# Altium schematic symbol library JEAC605UM-FTTSC-1 (1).~1.~1.SCHLIB: 42 symbols
Pins are listed as number, name and electrical type; pins without a type are passive.

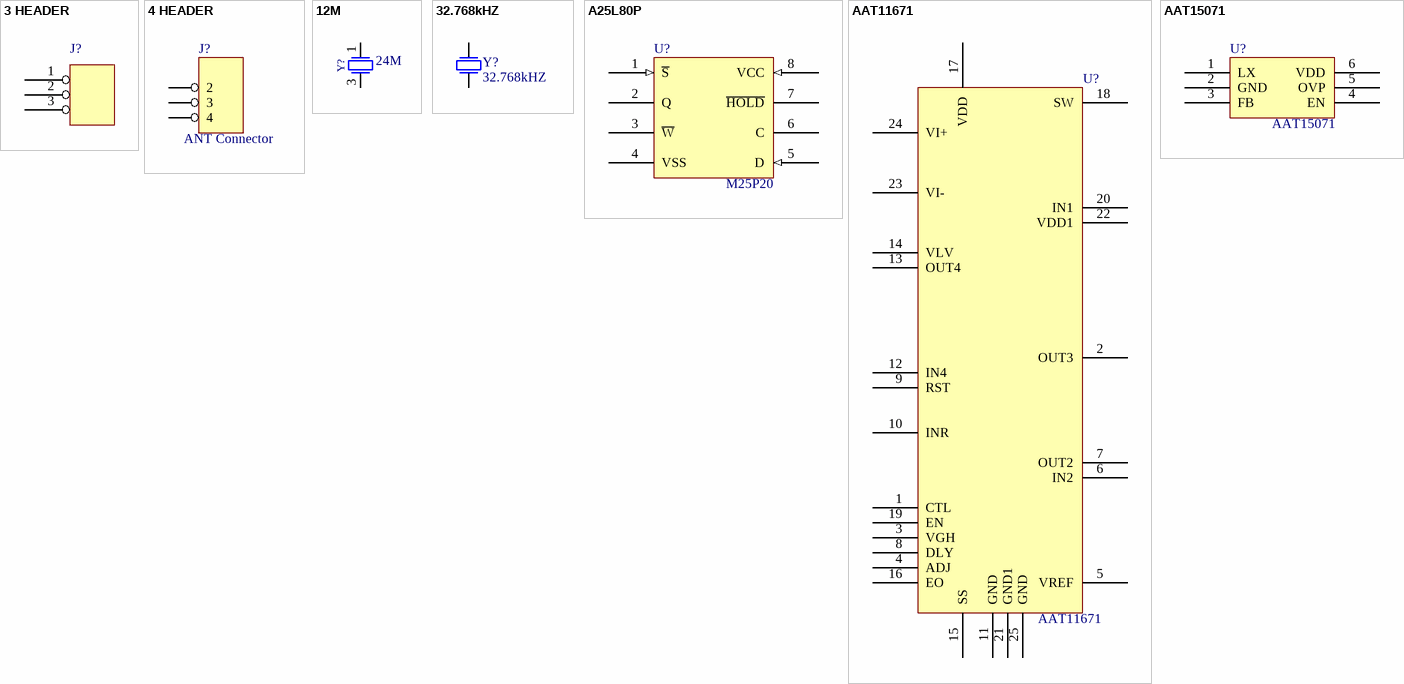
[diagram p0: symbols 3 HEADER to AAT15071]

## 3 HEADER
designator J?
footprint J-CON-3-2_1 (MONO_TEST)
pins: 1, 2, 3

## 4 HEADER
designator J?, comment ANT Connector
4 Pin Header
footprint J-AT-3-50-H (ATNC)
pins: 2, 3, 4

## 12M
designator Y?, comment 24M
Crystal Oscillator
footprint Y-4-2_2-TXC-3225 (XTAL-3225)
pins: 1 P1, 2 GND hidden to GND, 3 P2, 4 GND hidden to GND

## 32.768kHZ
designator Y?
Crystal Oscillator
footprint Y-2-XTALB (XTAL-B)
pins: 1 P1, 2 P2

## A25L80P
designator U?, comment M25P20
footprint U-SO-8-1_27 (SO-8)
pins: 1 ~{S} (in), 2 Q, 3 ~{W}, 4 VSS (power), 5 D (in), 6 C, 7 ~{HOLD}, 8 VCC (in)

## AAT11671
designator U?
footprint U-QFN-24-0_5
pins: 1 CTL, 2 OUT3, 3 VGH, 4 ADJ, 5 VREF, 6 IN2, 7 OUT2, 8 DLY, 9 RST, 10 INR, 11 GND, 12 IN4, 13 OUT4, 14 VLV, 15 SS, 16 EO, 17 VDD, 18 SW, 19 EN, 20 IN1, 21 GND1, 22 VDD1, 23 VI-, 24 VI+, 25 GND

## AAT15071
designator U?
footprint SOT23-6-0_95 (Footprint not found)
pins: 1 LX, 2 GND, 3 FB, 4 EN, 5 OVP, 6 VDD

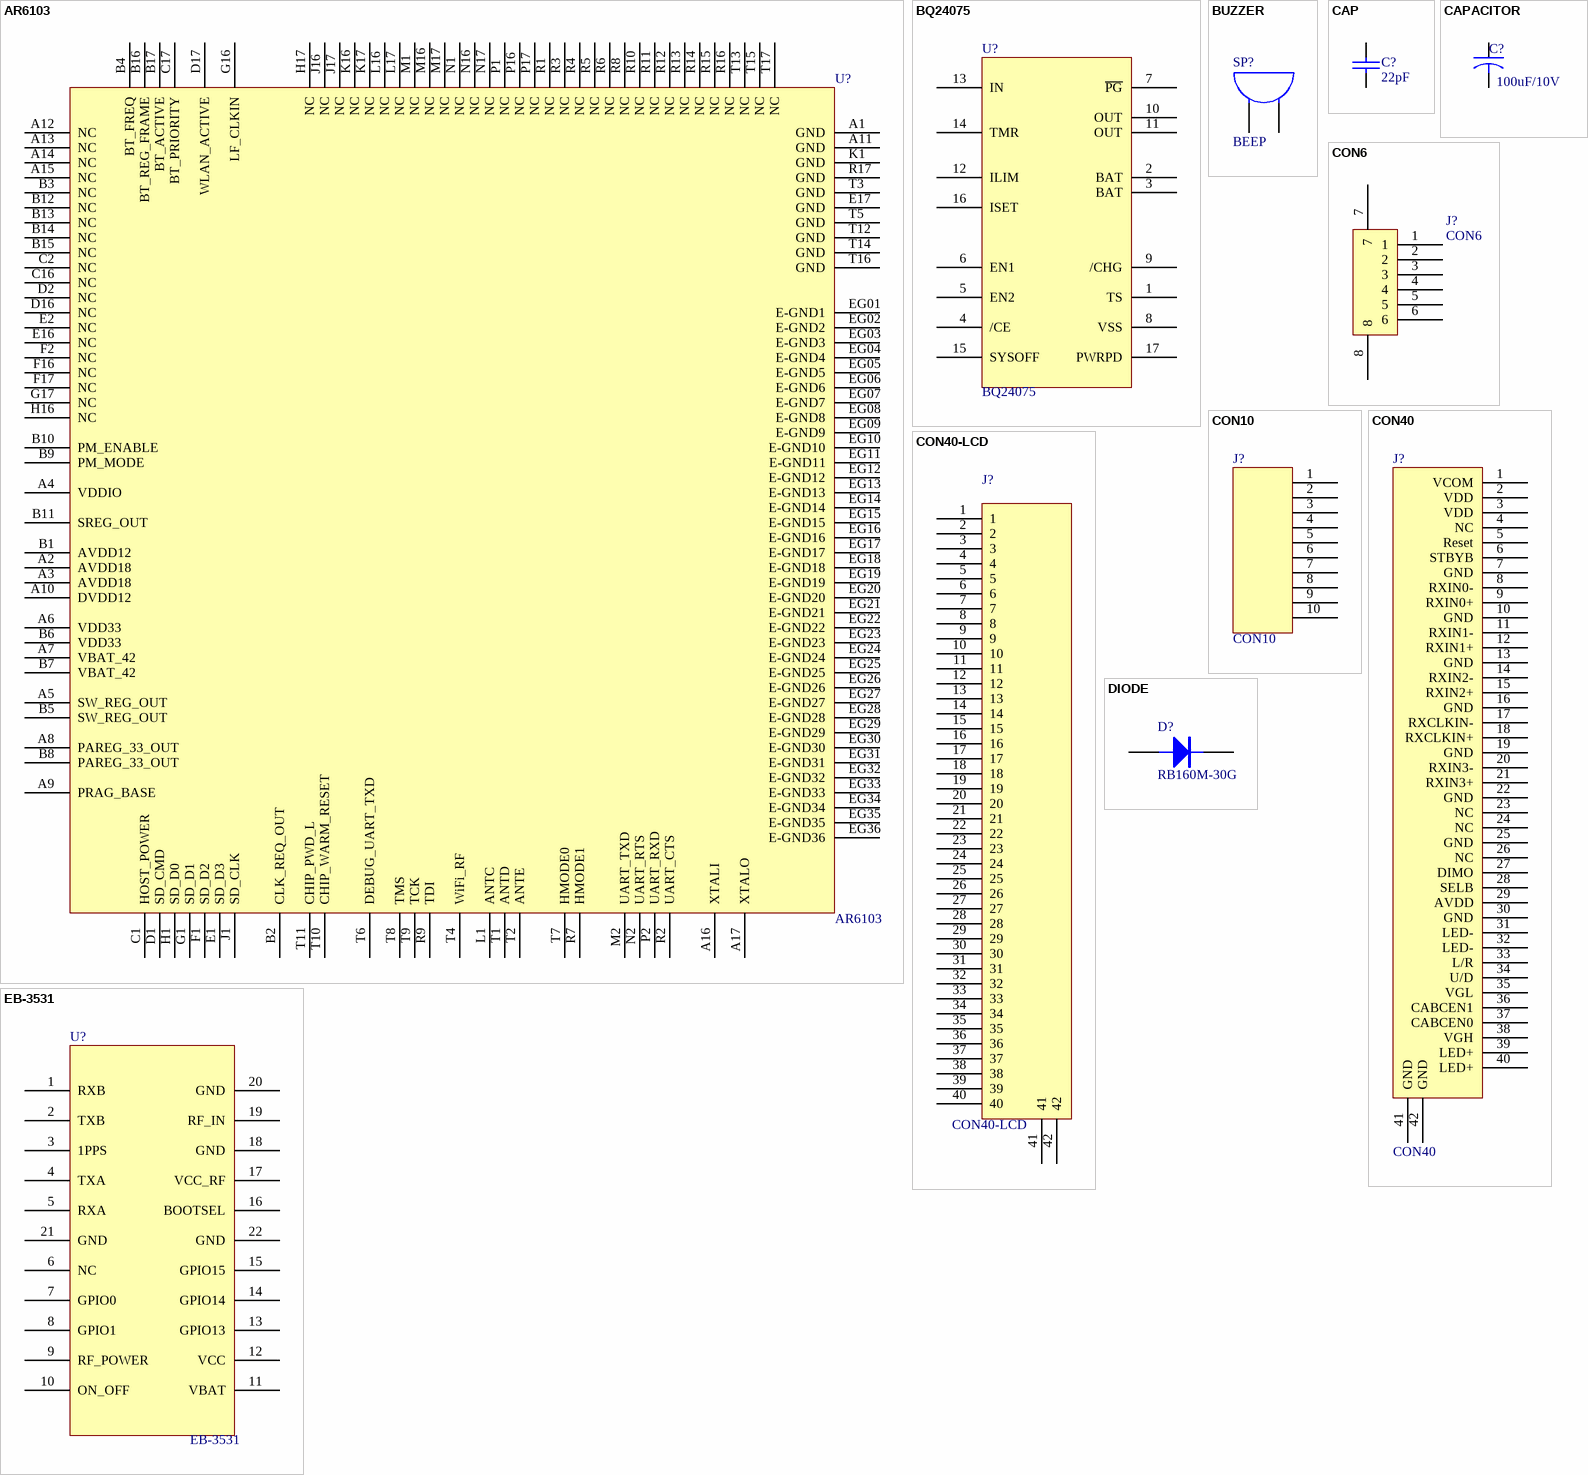
[diagram p1: symbols AR6103 to EB-3531]

## AR6103
designator U?
footprint U-WF-BGA-0_5-147
pins: A1 GND, A2 AVDD18, A3 AVDD18, A4 VDDIO, A5 SW_REG_OUT, A6 VDD33, A7 VBAT_42, A8 PAREG_33_OUT, A9 PRAG_BASE, A10 DVDD12, A11 GND, A12 NC, A13 NC, A14 NC, A15 NC, A16 XTALI, A17 XTALO, B1 AVDD12, B2 CLK_REQ_OUT, B3 NC, B4 BT_FREQ, B5 SW_REG_OUT, B6 VDD33, B7 VBAT_42, B8 PAREG_33_OUT, B9 PM_MODE, B10 PM_ENABLE, B11 SREG_OUT, B12 NC, B13 NC, B14 NC, B15 NC, B16 BT_REG_FRAME, B17 BT_ACTIVE, C1 HOST_POWER, C2 NC, C16 NC, C17 BT_PRIORITY, D1 SD_CMD, D2 NC, D16 NC, D17 WLAN_ACTIVE, E1 SD_D3, E2 NC, E16 NC, E17 GND, EG01 E-GND1, EG02 E-GND2, EG03 E-GND3, EG04 E-GND4, EG05 E-GND5, EG06 E-GND6, EG07 E-GND7, EG08 E-GND8, EG09 E-GND9, EG10 E-GND10, EG11 E-GND11, EG12 E-GND12, EG13 E-GND13, EG14 E-GND14, EG15 E-GND15, EG16 E-GND16, EG17 E-GND17, EG18 E-GND18, EG19 E-GND19, EG20 E-GND20, EG21 E-GND21, EG22 E-GND22, EG23 E-GND23, EG24 E-GND24, EG25 E-GND25, EG26 E-GND26, EG27 E-GND27, EG28 E-GND28, EG29 E-GND29, EG30 E-GND30, EG31 E-GND31, EG32 E-GND32, EG33 E-GND33, EG34 E-GND34, EG35 E-GND35, EG36 E-GND36, F1 SD_D2, F2 NC, F16 NC, F17 NC, G1 SD_D1, G16 LF_CLKIN, G17 NC, H1 SD_D0, H16 NC, H17 NC, J1 SD_CLK, J16 NC, J17 NC, K1 GND, K16 NC, K17 NC, L1 ANTC, L16 NC, L17 NC, M1 NC, M2 UART_TXD, M16 NC, M17 NC, N1 NC, N2 UART_RTS, N16 NC, N17 NC, P1 NC, P2 UART_RXD, P16 NC, P17 NC, R1 NC, R2 UART_CTS, R3 NC, R4 NC, R5 NC, R6 NC, R7 HMODE1, R8 NC, R9 TDI, R10 NC, R11 NC, R12 NC, R13 NC, R14 NC, R15 NC, R16 NC, R17 GND, T1 ANTD, T2 ANTE, T3 GND, T4 WiFi_RF, T5 GND, T6 DEBUG_UART_TXD, T7 HMODE0, T8 TMS, T9 TCK, T10 CHIP_WARM_RESET, T11 CHIP_PWD_L, T12 GND, T13 NC, T14 GND, T15 NC, T16 GND, T17 NC

## BQ24075
designator U?
footprint U-QFN-16-0_5
pins: 1 TS, 2 BAT, 3 BAT, 4 /CE, 5 EN2, 6 EN1, 7 ~{PG}, 8 VSS, 9 /CHG, 10 OUT, 11 OUT, 12 ILIM, 13 IN, 14 TMR, 15 SYSOFF, 16 ISET, 17 PWRPD

## BUZZER
designator SP?, comment BEEP
Buzzer
footprint J-BUZ-4-6_4 (KTT)
pins: 1 A, 2 B

## CAP
designator C?, comment 22pF
Capacitor
footprint 0603
footprint 0402A
footprint C0402 (0402B)
pins: 1, 2

## CAPACITOR
designator C?, comment 100uF/10V
Capacitor
footprint EIA3528
footprint EIA47UF
footprint CASE-B (EIA3518)
pins: 1, 2

## CON6
designator J?
footprint J-CON-6-0_5 (CN6T)
pins: 1, 2, 3, 4, 5, 6, 7, 8

## CON10
designator J?
footprint J-CON-10-1_0 (CN10T)
pins: 1, 2, 3, 4, 5, 6, 7, 8, 9, 10

## CON40
designator J?
footprint j-con-40-0_5f
pins: 1 VCOM, 2 VDD, 3 VDD, 4 NC, 5 Reset, 6 STBYB, 7 GND, 8 RXIN0-, 9 RXIN0+, 10 GND, 11 RXIN1-, 12 RXIN1+, 13 GND, 14 RXIN2-, 15 RXIN2+, 16 GND, 17 RXCLKIN-, 18 RXCLKIN+, 19 GND, 20 RXIN3-, 21 RXIN3+, 22 GND, 23 NC, 24 NC, 25 GND, 26 NC, 27 DIMO, 28 SELB, 29 AVDD, 30 GND, 31 LED-, 32 LED-, 33 L/R, 34 U/D, 35 VGL, 36 CABCEN1, 37 CABCEN0, 38 VGH, 39 LED+, 40 LED+, 41 GND, 42 GND

## CON40-LCD
designator J?
footprint j-con-40-0_5
pins: 1, 2, 3, 4, 5, 6, 7, 8, 9, 10, 11, 12, 13, 14, 15, 16, 17, 18, 19, 20, 21, 22, 23, 24, 25, 26, 27, 28, 29, 30, 31, 32, 33, 34, 35, 36, 37, 38, 39, 40, 41, 42

## DIODE
designator D?, comment RB160M-30G
footprint SOD-123 (RB160M-30G)
pins: 1, 2

## EB-3531
designator U?
footprint U-GPS-22-3531X (Model Description)
pins: 1 RXB, 2 TXB, 3 1PPS, 4 TXA, 5 RXA, 6 NC, 7 GPIO0, 8 GPIO1, 9 RF_POWER, 10 ON_OFF, 11 VBAT, 12 VCC, 13 GPIO13, 14 GPIO14, 15 GPIO15, 16 BOOTSEL, 17 VCC_RF, 18 GND, 19 RF_IN, 20 GND, 21 GND, 22 GND

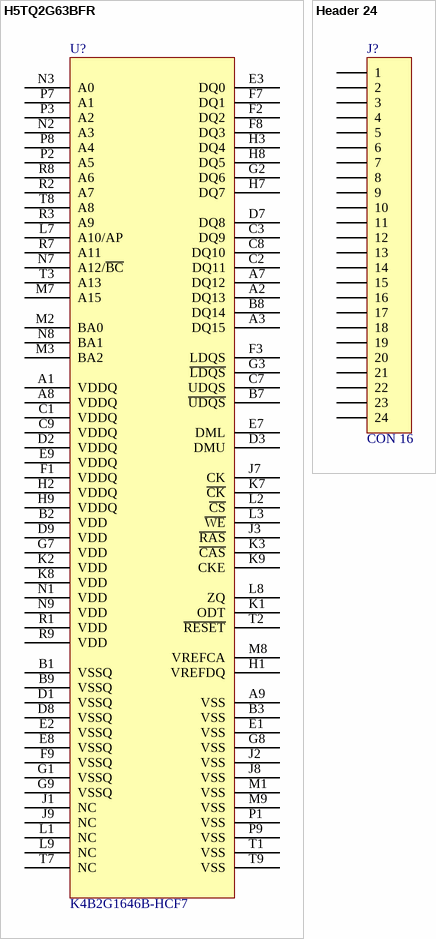
[diagram p2: symbols H5TQ2G63BFR to Header 24]

## H5TQ2G63BFR
designator U?, comment K4B2G1646B-HCF7
footprint U-BGA-96-0_8 (Model Description)
pins: A1 VDDQ, A2 DQ13, A3 DQ15, A7 DQ12, A8 VDDQ, A9 VSS, B1 VSSQ, B2 VDD, B3 VSS, B7 ~{UDQS}, B8 DQ14, B9 VSSQ, C1 VDDQ, C2 DQ11, C3 DQ9, C7 UDQS, C8 DQ10, C9 VDDQ, D1 VSSQ, D2 VDDQ, D3 DMU, D7 DQ8, D8 VSSQ, D9 VDD, E1 VSS, E2 VSSQ, E3 DQ0, E7 DML, E8 VSSQ, E9 VDDQ, F1 VDDQ, F2 DQ2, F3 LDQS, F7 DQ1, F8 DQ3, F9 VSSQ, G1 VSSQ, G2 DQ6, G3 ~{LDQS}, G7 VDD, G8 VSS, G9 VSSQ, H1 VREFDQ, H2 VDDQ, H3 DQ4, H7 DQ7, H8 DQ5, H9 VDDQ, J1 NC, J2 VSS, J3 ~{RAS}, J7 CK, J8 VSS, J9 NC, K1 ODT, K2 VDD, K3 ~{CAS}, K7 ~{CK}, K8 VDD, K9 CKE, L1 NC, L2 ~{CS}, L3 ~{WE}, L7 A10/AP, L8 ZQ, L9 NC, M1 VSS, M2 BA0, M3 BA2, M7 A15, M8 VREFCA, M9 VSS, N1 VDD, N2 A3, N3 A0, N7 A12/~{BC}, N8 BA1, N9 VDD, P1 VSS, P2 A5, P3 A2, P7 A1, P8 A4, P9 VSS, R1 VDD, R2 A7, R3 A9, R7 A11, R8 A6, R9 VDD, T1 VSS, T2 ~{RESET}, T3 A13, T7 NC, T8 A8, T9 VSS

## Header 24
designator J?, comment CON 16
Header, 24-Pin; Manufacturer: Generic Components; Class: Connector
footprint j-con-16-0_5 (Model Description)
pins: 1, 2, 3, 4, 5, 6, 7, 8, 9, 10, 11, 12, 13, 14, 15, 16, 17, 18, 19, 20, 21, 22, 23, 24

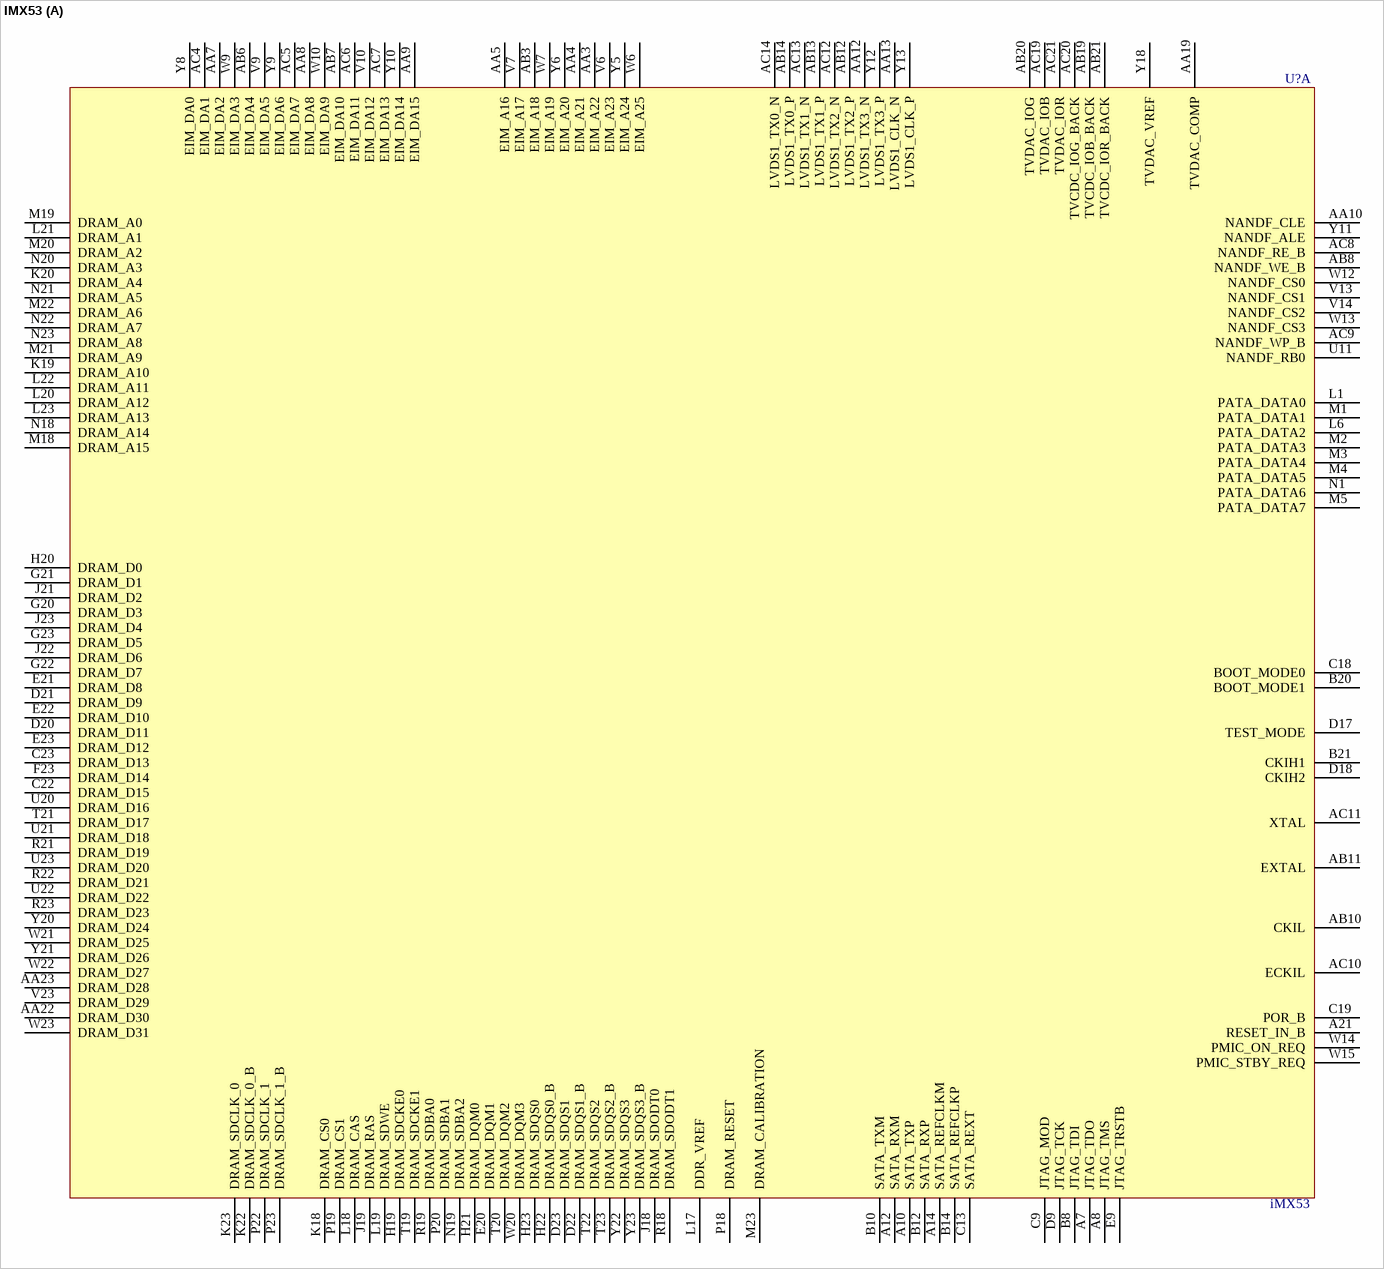
[diagram p3: symbol IMX53]

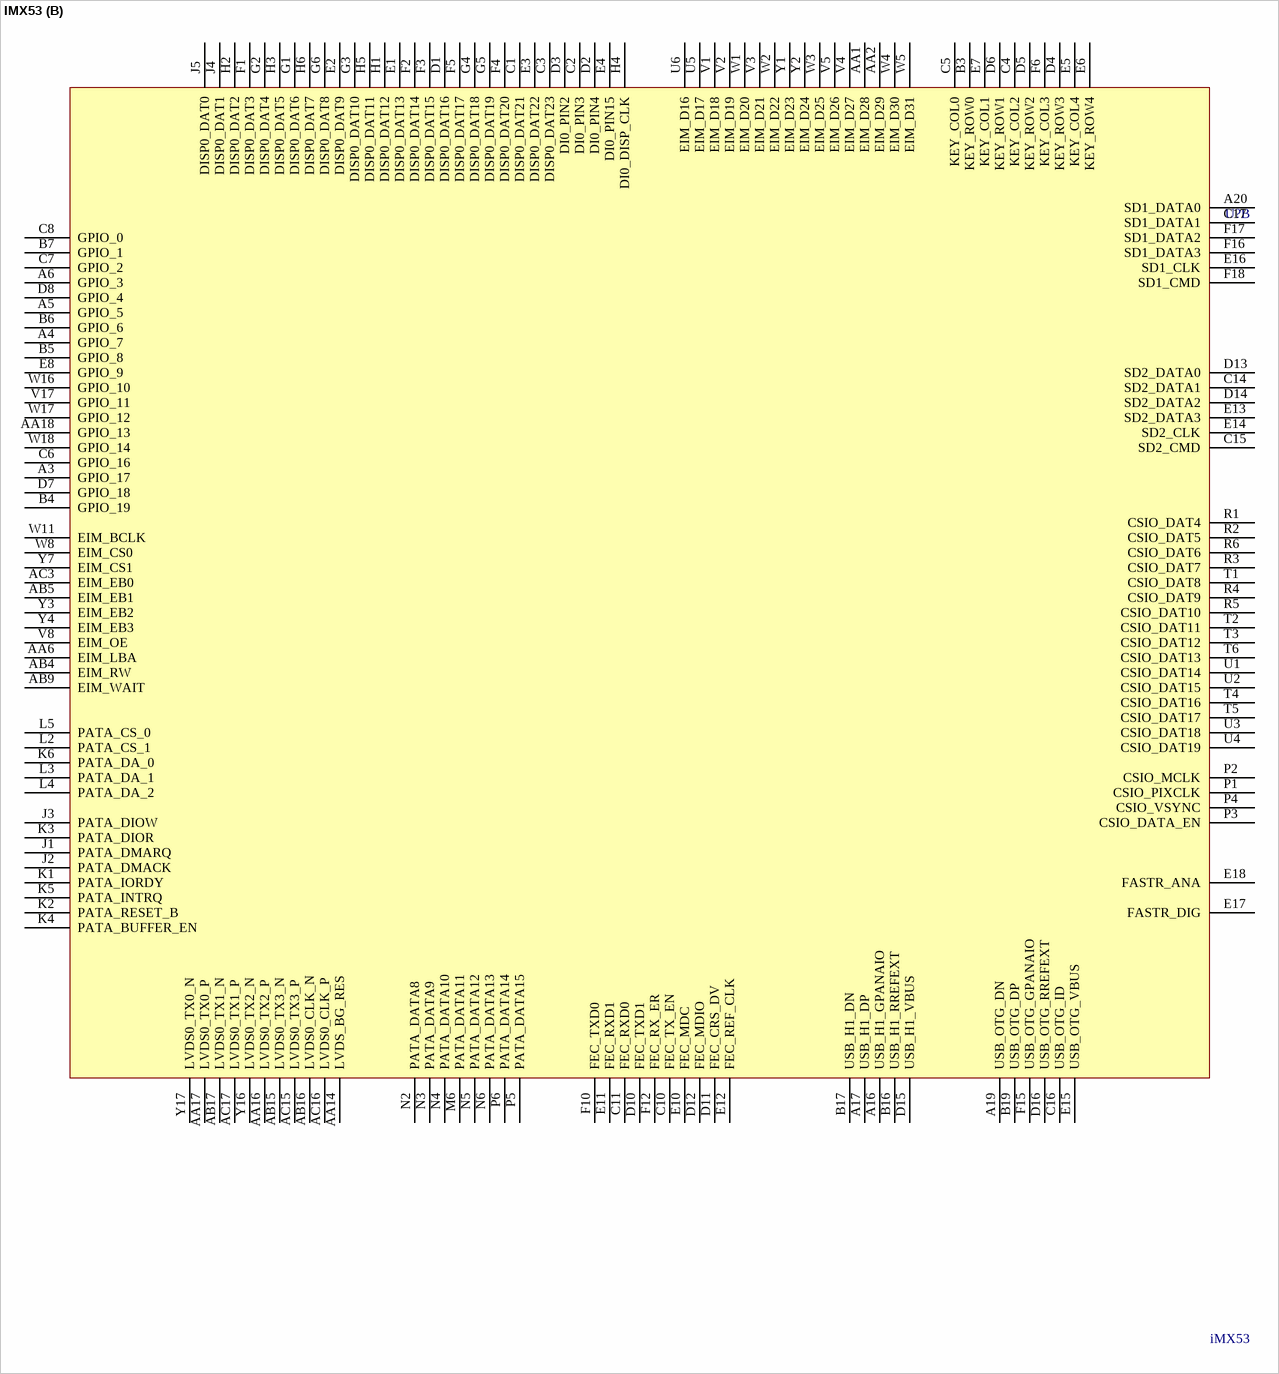
[diagram p4: symbol IMX53]

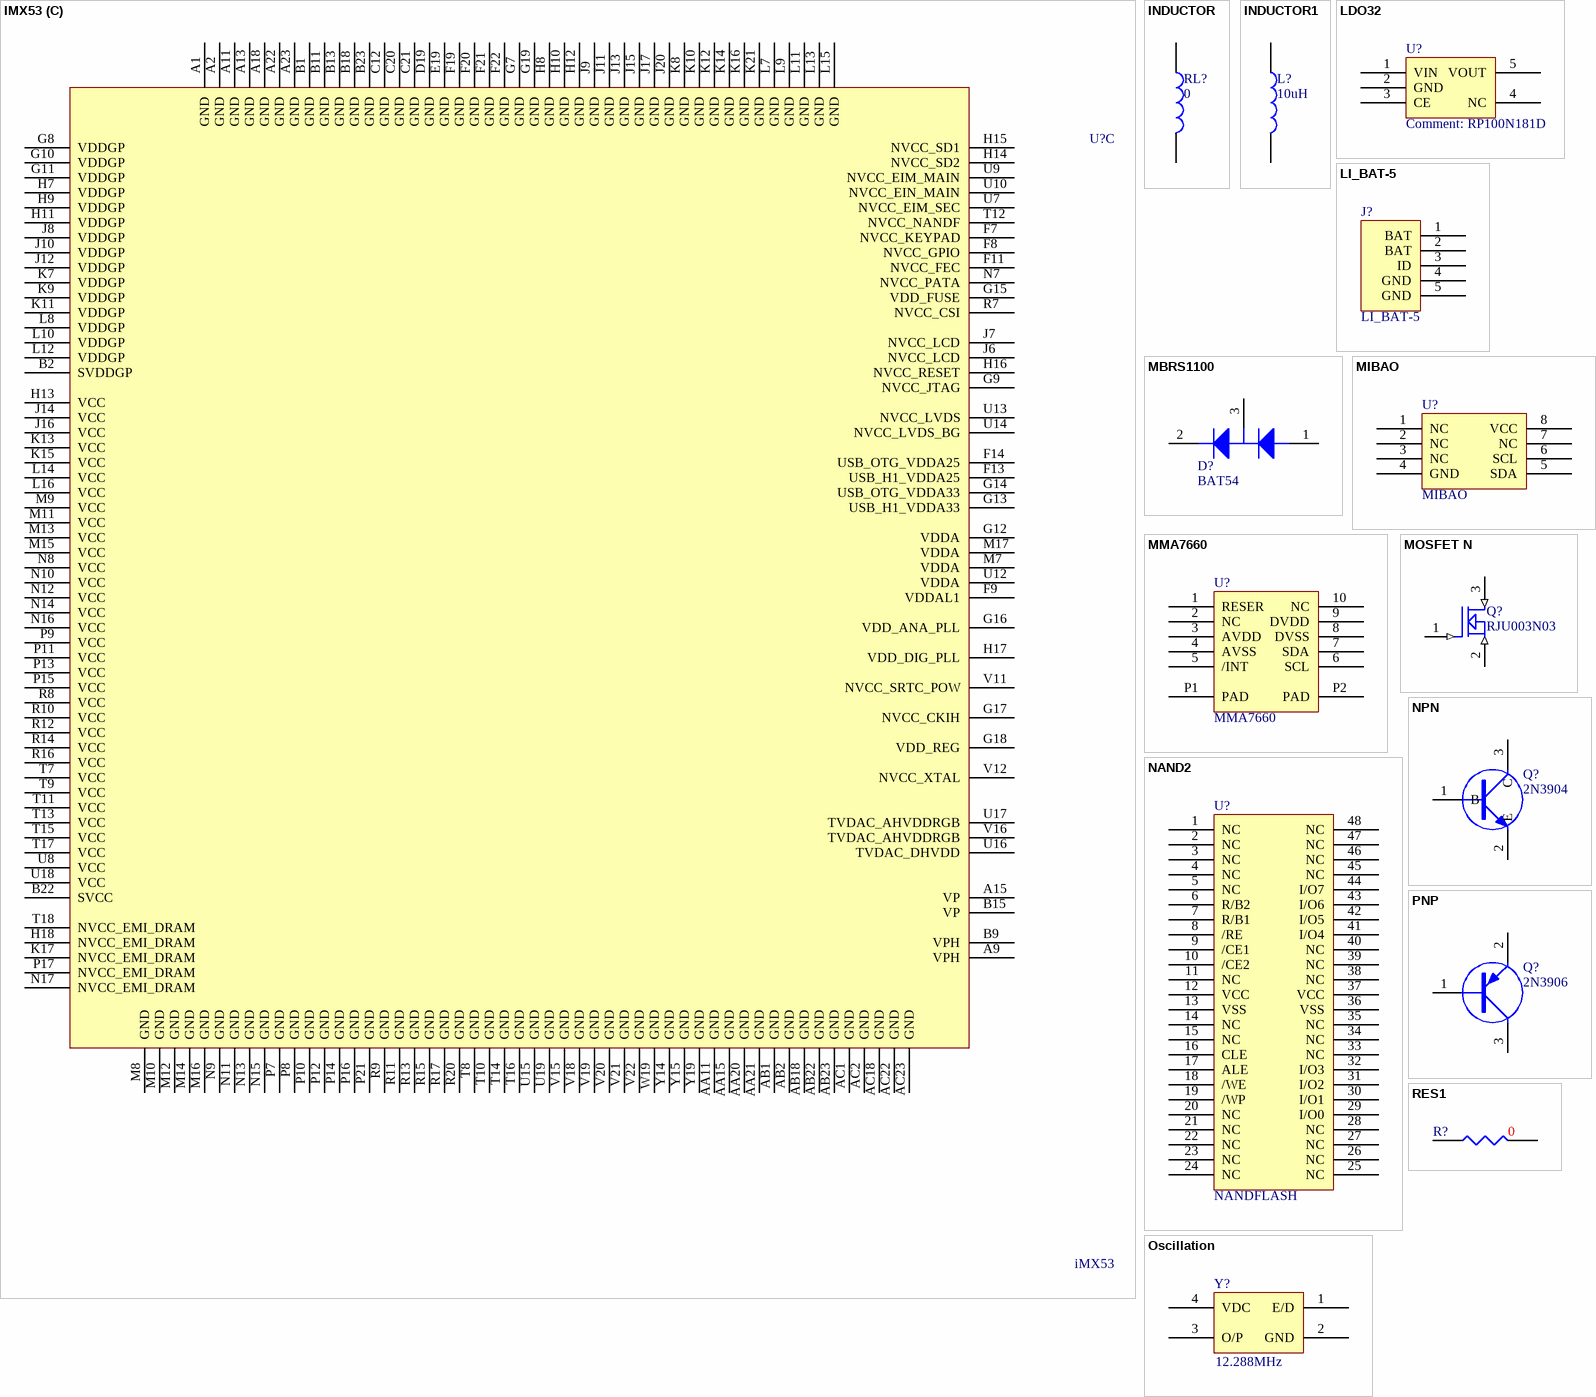
[diagram p5: symbols IMX53 to RES1]

## IMX53
designator U?, comment iMX53
footprint U-BGA-529-0_8 (Model Description)
part A pins: A7 JTAG_TDO, A8 JTAG_TMS, A10 SATA_TXP, A12 SATA_RXM, A14 SATA_REFCLKM, A21 RESET_IN_B, AA3 EIM_A22, AA4 EIM_A21, AA5 EIM_A16, AA7 EIM_DA2, AA8 EIM_DA8, AA9 EIM_DA15, AA10 NANDF_CLE, AA12 LVDS1_TX3_N, AA13 LVDS1_CLK_N, AA19 TVDAC_COMP, AA22 DRAM_D30, AA23 DRAM_D28, AB3 EIM_A18, AB6 EIM_DA4, AB7 EIM_DA10, AB8 NANDF_WE_B, AB10 CKIL, AB11 EXTAL, AB12 LVDS1_TX2_P, AB13 LVDS1_TX1_P, AB14 LVDS1_TX0_P, AB19 TVCDC_IOB_BACK, AB20 TVDAC_IOG, AB21 TVCDC_IOR_BACK, AC4 EIM_DA1, AC5 EIM_DA7, AC6 EIM_DA11, AC7 EIM_DA13, AC8 NANDF_RE_B, AC9 NANDF_WP_B, AC10 ECKIL, AC11 XTAL, AC12 LVDS1_TX2_N, AC13 LVDS1_TX1_N, AC14 LVDS1_TX0_N, AC19 TVDAC_IOB, AC20 TVCDC_IOG_BACK, AC21 TVDAC_IOR, B8 JTAG_TDI, B10 SATA_TXM, B12 SATA_RXP, B14 SATA_REFCLKP, B20 BOOT_MODE1, B21 CKIH1, C9 JTAG_MOD, C13 SATA_REXT, C18 BOOT_MODE0, C19 POR_B, C22 DRAM_D15, C23 DRAM_D13, D9 JTAG_TCK, D17 TEST_MODE, D18 CKIH2, D20 DRAM_D11, D21 DRAM_D9, D22 DRAM_SDQS1_B, D23 DRAM_SDQS1, E9 JTAG_TRSTB, E20 DRAM_DQM1, E21 DRAM_D8, E22 DRAM_D10, E23 DRAM_D12, F23 DRAM_D14, G20 DRAM_D3, G21 DRAM_D1, G22 DRAM_D7, G23 DRAM_D5, H19 DRAM_SDCKE0, H20 DRAM_D0, H21 DRAM_DQM0, H22 DRAM_SDQS0_B, H23 DRAM_SDQS0, J18 DRAM_SDODT0, J19 DRAM_RAS, J21 DRAM_D2, J22 DRAM_D6, J23 DRAM_D4, K18 DRAM_CS0, K19 DRAM_A10, K20 DRAM_A4, K22 DRAM_SDCLK_0_B, K23 DRAM_SDCLK_0, L1 PATA_DATA0, L6 PATA_DATA2, L17 DDR_VREF, L18 DRAM_CAS, L19 DRAM_SDWE, L20 DRAM_A12, L21 DRAM_A1, L22 DRAM_A11, L23 DRAM_A13, M1 PATA_DATA1, M2 PATA_DATA3, M3 PATA_DATA4, M4 PATA_DATA5, M5 PATA_DATA7, M18 DRAM_A15, M19 DRAM_A0, M20 DRAM_A2, M21 DRAM_A9, M22 DRAM_A6, M23 DRAM_CALIBRATION, N1 PATA_DATA6, N18 DRAM_A14, N19 DRAM_SDBA2, N20 DRAM_A3, N21 DRAM_A5, N22 DRAM_A7, N23 DRAM_A8, P18 DRAM_RESET, P19 DRAM_CS1, P20 DRAM_SDBA1, P22 DRAM_SDCLK_1, P23 DRAM_SDCLK_1_B, R18 DRAM_SDODT1, R19 DRAM_SDBA0, R21 DRAM_D19, R22 DRAM_D21, R23 DRAM_D23, T19 DRAM_SDCKE1, T20 DRAM_DQM2, T21 DRAM_D17, T22 DRAM_SDQS2, T23 DRAM_SDQS2_B, U11 NANDF_RB0, U20 DRAM_D16, U21 DRAM_D18, U22 DRAM_D22, U23 DRAM_D20, V6 EIM_A23, V7 EIM_A17, V9 EIM_DA5, V10 EIM_DA12, V13 NANDF_CS1, V14 NANDF_CS2, V23 DRAM_D29, W6 EIM_A25, W7 EIM_A19, W9 EIM_DA3, W10 EIM_DA9, W12 NANDF_CS0, W13 NANDF_CS3, W14 PMIC_ON_REQ, W15 PMIC_STBY_REQ, W20 DRAM_DQM3, W21 DRAM_D25, W22 DRAM_D27, W23 DRAM_D31, Y5 EIM_A24, Y6 EIM_A20, Y8 EIM_DA0, Y9 EIM_DA6, Y10 EIM_DA14, Y11 NANDF_ALE, Y12 LVDS1_TX3_P, Y13 LVDS1_CLK_P, Y18 TVDAC_VREF, Y20 DRAM_D24, Y21 DRAM_D26, Y22 DRAM_SDQS3, Y23 DRAM_SDQS3_B
part B pins: A3 GPIO_17, A4 GPIO_7, A5 GPIO_5, A6 GPIO_3, A16 USB_H1_GPANAIO, A17 USB_H1_DP, A19 USB_OTG_DN, A20 SD1_DATA0, AA1 EIM_D28, AA2 EIM_D29, AA6 EIM_LBA, AA14 LVDS_BG_RES, AA16 LVDS0_TX2_P, AA17 LVDS0_TX0_P, AA18 GPIO_13, AB4 EIM_RW, AB5 EIM_EB1, AB9 EIM_WAIT, AB15 LVDS0_TX3_N, AB16 LVDS0_CLK_N, AB17 LVDS0_TX1_N, AC3 EIM_EB0, AC15 LVDS0_TX3_P, AC16 LVDS0_CLK_P, AC17 LVDS0_TX1_P, B3 KEY_ROW0, B4 GPIO_19, B5 GPIO_8, B6 GPIO_6, B7 GPIO_1, B16 USB_H1_RREFEXT, B17 USB_H1_DN, B19 USB_OTG_DP, C1 DISP0_DAT21, C2 DI0_PIN3, C3 DISP0_DAT23, C4 KEY_COL2, C5 KEY_COL0, C6 GPIO_16, C7 GPIO_2, C8 GPIO_0, C10 FEC_TX_EN, C11 FEC_RXD0, C14 SD2_DATA1, C15 SD2_CMD, C16 USB_OTG_ID, C17 SD1_DATA1, D1 DISP0_DAT16, D2 DI0_PIN4, D3 DI0_PIN2, D4 KEY_ROW3, D5 KEY_ROW2, D6 KEY_ROW1, D7 GPIO_18, D8 GPIO_4, D10 FEC_TXD1, D11 FEC_CRS_DV, D12 FEC_MDIO, D13 SD2_DATA0, D14 SD2_DATA2, D15 USB_H1_VBUS, D16 USB_OTG_RREFEXT, E1 DISP0_DAT13, E2 DISP0_DAT9, E3 DISP0_DAT22, E4 DI0_PIN15, E5 KEY_COL4, E6 KEY_ROW4, E7 KEY_COL1, E8 GPIO_9, E10 FEC_MDC, E11 FEC_RXD1, E12 FEC_REF_CLK, E13 SD2_DATA3, E14 SD2_CLK, E15 USB_OTG_VBUS, E16 SD1_CLK, E17 FASTR_DIG, E18 FASTR_ANA, F1 DISP0_DAT3, F2 DISP0_DAT14, F3 DISP0_DAT15, F4 DISP0_DAT20, F5 DISP0_DAT17, F6 KEY_COL3, F10 FEC_TXD0, F12 FEC_RX_ER, F15 USB_OTG_GPANAIO, F16 SD1_DATA3, F17 SD1_DATA2, F18 SD1_CMD, G1 DISP0_DAT6, G2 DISP0_DAT4, G3 DISP0_DAT10, G4 DISP0_DAT18, G5 DISP0_DAT19, G6 DISP0_DAT8, H1 DISP0_DAT12, H2 DISP0_DAT2, H3 DISP0_DAT5, H4 DI0_DISP_CLK, H5 DISP0_DAT11, H6 DISP0_DAT7, J1 PATA_DMARQ, J2 PATA_DMACK, J3 PATA_DIOW, J4 DISP0_DAT1, J5 DISP0_DAT0, K1 PATA_IORDY, K2 PATA_RESET_B, K3 PATA_DIOR, K4 PATA_BUFFER_EN, K5 PATA_INTRQ, K6 PATA_DA_0, L2 PATA_CS_1, L3 PATA_DA_1, L4 PATA_DA_2, L5 PATA_CS_0, M6 PATA_DATA11, N2 PATA_DATA8, N3 PATA_DATA9, N4 PATA_DATA10, N5 PATA_DATA12, N6 PATA_DATA13, P1 CSIO_PIXCLK, P2 CSIO_MCLK, P3 CSIO_DATA_EN, P4 CSIO_VSYNC, P5 PATA_DATA15, P6 PATA_DATA14, R1 CSIO_DAT4, R2 CSIO_DAT5, R3 CSIO_DAT7, R4 CSIO_DAT9, R5 CSIO_DAT10, R6 CSIO_DAT6, T1 CSIO_DAT8, T2 CSIO_DAT11, T3 CSIO_DAT12, T4 CSIO_DAT16, T5 CSIO_DAT17, T6 CSIO_DAT13, U1 CSIO_DAT14, U2 CSIO_DAT15, U3 CSIO_DAT18, U4 CSIO_DAT19, U5 EIM_D17, U6 EIM_D16, V1 EIM_D18, V2 EIM_D19, V3 EIM_D21, V4 EIM_D27, V5 EIM_D26, V8 EIM_OE, V17 GPIO_11, W1 EIM_D20, W2 EIM_D22, W3 EIM_D25, W4 EIM_D30, W5 EIM_D31, W8 EIM_CS0, W11 EIM_BCLK, W16 GPIO_10, W17 GPIO_12, W18 GPIO_14, Y1 EIM_D23, Y2 EIM_D24, Y3 EIM_EB2, Y4 EIM_EB3, Y7 EIM_CS1, Y16 LVDS0_TX2_N, Y17 LVDS0_TX0_N
part C pins: A1 GND, A2 GND, A9 VPH, A11 GND, A13 GND, A15 VP, A18 GND, A22 GND, A23 GND, AA11 GND, AA15 GND, AA20 GND, AA21 GND, AB1 GND, AB2 GND, AB18 GND, AB22 GND, AB23 GND, AC1 GND, AC2 GND, AC18 GND, AC22 GND, AC23 GND, B1 GND, B2 SVDDGP, B9 VPH, B11 GND, B13 GND, B15 VP, B18 GND, B22 SVCC, B23 GND, C12 GND, C20 GND, C21 GND, D19 GND, E19 GND, F7 NVCC_KEYPAD, F8 NVCC_GPIO, F9 VDDAL1, F11 NVCC_FEC, F13 USB_H1_VDDA25, F14 USB_OTG_VDDA25, F19 GND, F20 GND, F21 GND, F22 GND, G7 GND, G8 VDDGP, G9 NVCC_JTAG, G10 VDDGP, G11 VDDGP, G12 VDDA, G13 USB_H1_VDDA33, G14 USB_OTG_VDDA33, G15 VDD_FUSE, G16 VDD_ANA_PLL, G17 NVCC_CKIH, G18 VDD_REG, G19 GND, H7 VDDGP, H8 GND, H9 VDDGP, H10 GND, H11 VDDGP, H12 GND, H13 VCC, H14 NVCC_SD2, H15 NVCC_SD1, H16 NVCC_RESET, H17 VDD_DIG_PLL, H18 NVCC_EMI_DRAM, J6 NVCC_LCD, J7 NVCC_LCD, J8 VDDGP, J9 GND, J10 VDDGP, J11 GND, J12 VDDGP, J13 GND, J14 VCC, J15 GND, J16 VCC, J17 GND, J20 GND, K7 VDDGP, K8 GND, K9 VDDGP, K10 GND, K11 VDDGP, K12 GND, K13 VCC, K14 GND, K15 VCC, K16 GND, K17 NVCC_EMI_DRAM, K21 GND, L7 GND, L8 VDDGP, L9 GND, L10 VDDGP, L11 GND, L12 VDDGP, L13 GND, L14 VCC, L15 GND, L16 VCC, M7 VDDA, M8 GND, M9 VCC, M10 GND, M11 VCC, M12 GND, M13 VCC, M14 GND, M15 VCC, M16 GND, M17 VDDA, N7 NVCC_PATA, N8 VCC, N9 GND, N10 VCC, N11 GND, N12 VCC, N13 GND, N14 VCC, N15 GND, N16 VCC, N17 NVCC_EMI_DRAM, P7 GND, P8 GND, P9 VCC, P10 GND, P11 VCC, P12 GND, P13 VCC, P14 GND, P15 VCC, P16 GND, P17 NVCC_EMI_DRAM, P21 GND, R7 NVCC_CSI, R8 VCC, R9 GND, R10 VCC, R11 GND, R12 VCC, R13 GND, R14 VCC, R15 GND, R16 VCC, R17 GND, R20 GND, T7 VCC, T8 GND, T9 VCC, T10 GND, T11 VCC, T12 NVCC_NANDF, T13 VCC, T14 GND, T15 VCC, T16 GND, T17 VCC, T18 NVCC_EMI_DRAM, U7 NVCC_EIM_SEC, U8 VCC, U9 NVCC_EIM_MAIN, U10 NVCC_EIN_MAIN, U12 VDDA, U13 NVCC_LVDS, U14 NVCC_LVDS_BG, U15 GND, U16 TVDAC_DHVDD, U17 TVDAC_AHVDDRGB, U18 VCC, U19 GND, V11 NVCC_SRTC_POW, V12 NVCC_XTAL, V15 GND, V16 TVDAC_AHVDDRGB, V18 GND, V19 GND, V20 GND, V21 GND, V22 GND, W19 GND, Y14 GND, Y15 GND, Y19 GND

## INDUCTOR
designator RL?, comment 0
footprint L0603 (0603)
footprint L0603 (0603)
pins: 1, 2

## INDUCTOR1
designator L?, comment 10uH
footprint COIL8
footprint l-2-EIA1008 (WE-TPC)
pins: 1, 2

## LDO32
designator U?, comment RP100N181D
LDO3.2V
footprint SOT23-5-0_95 (SOT23-5)
pins: 1 VIN, 2 GND, 3 CE, 4 NC, 5 VOUT

## LI_BAT-5
designator J?
footprint J-BAT-5-1_25 (A1255)
pins: 1 BAT, 2 BAT, 3 ID, 4 GND, 5 GND, 6 GND hidden to GND, 7 GND hidden to GND

## MBRS1100
designator D?, comment BAT54
footprint SOT-23
pins: 1, 2, 3

## MIBAO
designator U?
footprint U-SO-8-1_27 (SO-8)
pins: 1 NC, 2 NC, 3 NC, 4 GND, 5 SDA, 6 SCL, 7 NC, 8 VCC

## MMA7660
designator U?
footprint U-DFN-10-0_5 (DFN-10)
pins: 1 RESER, 2 NC, 3 AVDD, 4 AVSS, 5 /INT, 6 SCL, 7 SDA, 8 DVSS, 9 DVDD, 10 NC, P1 PAD, P2 PAD

## MOSFET N
designator Q?, comment RJU003N03
footprint SOT-23-NPN (SOT-23)
pins: 1 G (in), 2 S (in), 3 D (in)

## NAND2
designator U?, comment NANDFLASH
footprint U-TSOP-48-0_5 (TSOP-48)
pins: 1 NC, 2 NC, 3 NC, 4 NC, 5 NC, 6 R/B2, 7 R/B1, 8 /RE, 9 /CE1, 10 /CE2, 11 NC, 12 VCC, 13 VSS, 14 NC, 15 NC, 16 CLE, 17 ALE, 18 /WE, 19 /WP, 20 NC, 21 NC, 22 NC, 23 NC, 24 NC, 25 NC, 26 NC, 27 NC, 28 NC, 29 I/O0, 30 I/O1, 31 I/O2, 32 I/O3, 33 NC, 34 NC, 35 NC, 36 VSS, 37 VCC, 38 NC, 39 NC, 40 NC, 41 I/O4, 42 I/O5, 43 I/O6, 44 I/O7, 45 NC, 46 NC, 47 NC, 48 NC

## NPN
designator Q?, comment 2N3904
NPN Transistor
footprint SOT-23-NPN
pins: 1 B, 2 E, 3 C

## Oscillation
designator Y?, comment 12.288MHz
footprint Y-4-1_9-1CI2 (Footprint not found)
pins: 1 E/D, 2 GND, 3 O/P, 4 VDC

## PNP
designator Q?, comment 2N3906
PNP Transistor
footprint SOT-23-PNP
pins: 1 B, 2 E, 3 C

## RES1
designator R?, comment 0
footprint 0603
footprint 0402A
footprint R0402 (0402B)
pins: 1, 2

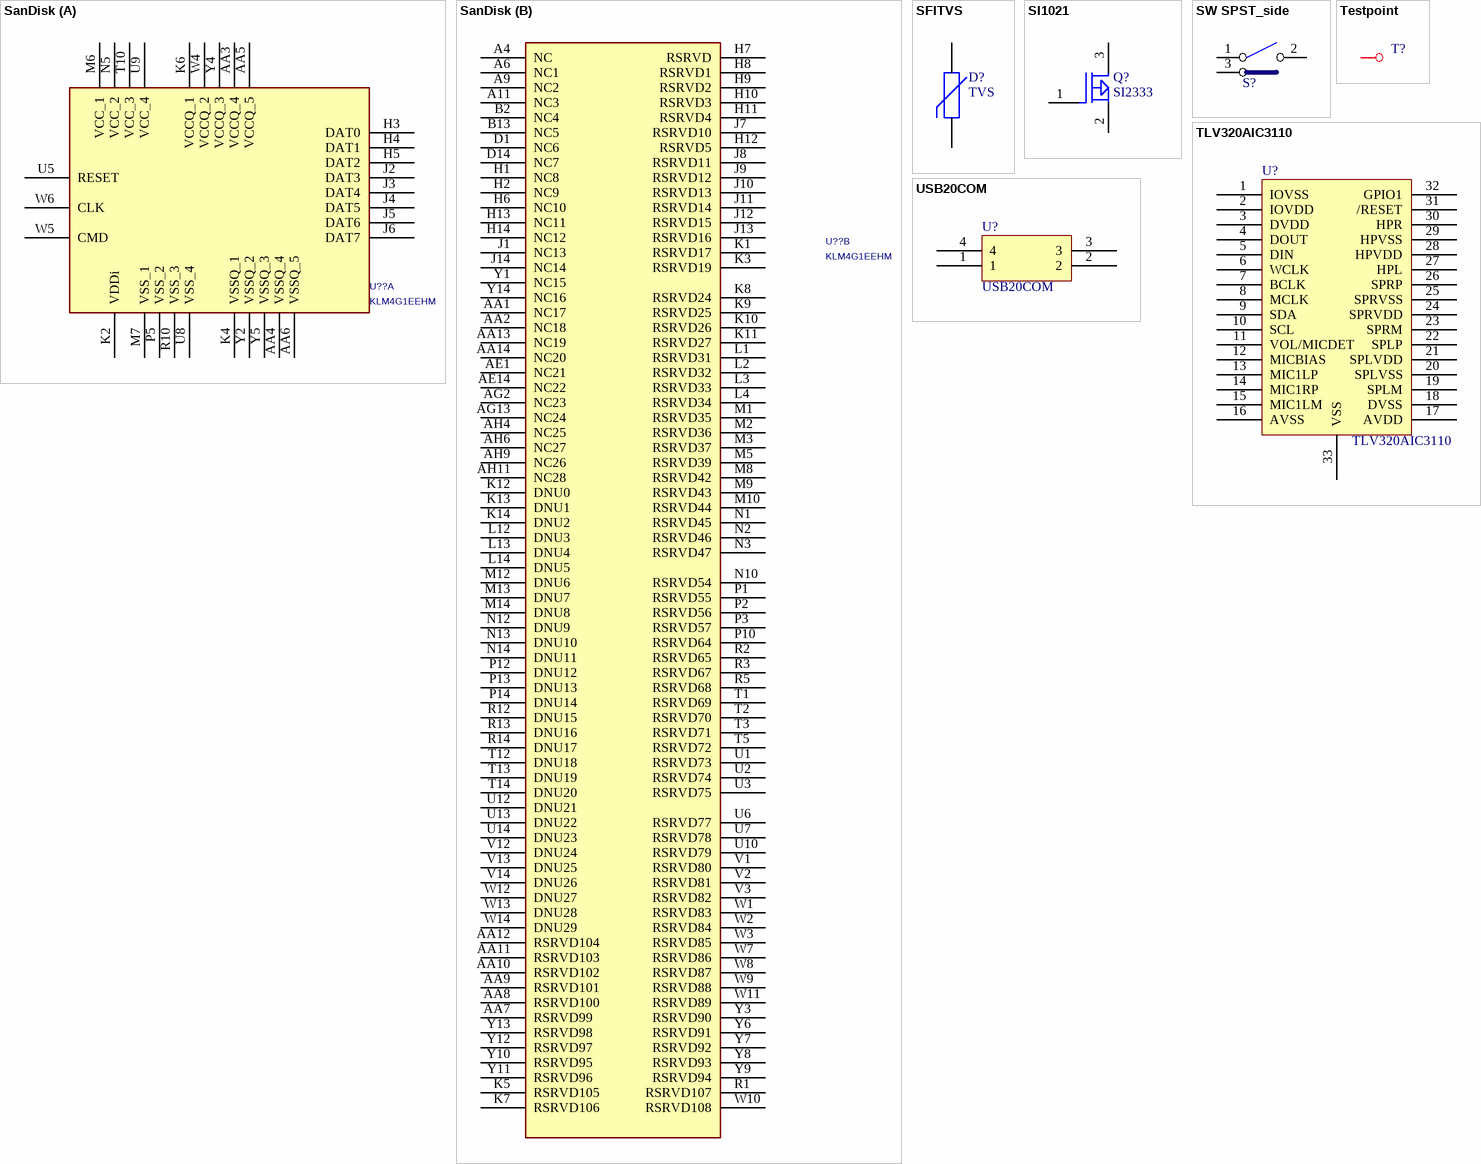
[diagram p6: symbols SanDisk to USB20COM]

## SanDisk
designator U??, comment KLM4G1EEHM
IC MOVINAND MEM FLASH 4GB 52MHZ 1.8/3.3V FBGA169; CAD_APPROVED: Yes; MFG_PN01: KLM4G1EEHM-B101; MFG_NAME01: Samsung; AGILE_PN: 334-77358; CLASS: IC; HEIGHT: 1.2MM; ROHS: Yes
footprint SanDisk
footprint fbga169_0p5_14x18
part A pins: AA3 VCCQ_4, AA4 VSSQ_4, AA5 VCCQ_5, AA6 VSSQ_5, H3 DAT0, H4 DAT1, H5 DAT2, J2 DAT3, J3 DAT4, J4 DAT5, J5 DAT6, J6 DAT7, K2 VDDi, K4 VSSQ_1, K6 VCCQ_1, M6 VCC_1, M7 VSS_1, N5 VCC_2, P5 VSS_2, R10 VSS_3, T10 VCC_3, U5 RESET, U8 VSS_4, U9 VCC_4, W4 VCCQ_2, W5 CMD, W6 CLK, Y2 VSSQ_2, Y4 VCCQ_3, Y5 VSSQ_3
part B pins: A4 NC, A6 NC1, A9 NC2, A11 NC3, AA1 NC17, AA2 NC18, AA7 RSRVD99, AA8 RSRVD100, AA9 RSRVD101, AA10 RSRVD102, AA11 RSRVD103, AA12 RSRVD104, AA13 NC19, AA14 NC20, AE1 NC21, AE14 NC22, AG2 NC23, AG13 NC24, AH4 NC25, AH6 NC27, AH9 NC26, AH11 NC28, B2 NC4, B13 NC5, D1 NC6, D14 NC7, H1 NC8, H2 NC9, H6 NC10, H7 RSRVD, H8 RSRVD1, H9 RSRVD2, H10 RSRVD3, H11 RSRVD4, H12 RSRVD5, H13 NC11, H14 NC12, J1 NC13, J7 RSRVD10, J8 RSRVD11, J9 RSRVD12, J10 RSRVD13, J11 RSRVD14, J12 RSRVD15, J13 RSRVD16, J14 NC14, K1 RSRVD17, K3 RSRVD19, K5 RSRVD105, K7 RSRVD106, K8 RSRVD24, K9 RSRVD25, K10 RSRVD26, K11 RSRVD27, K12 DNU0, K13 DNU1, K14 DNU2, L1 RSRVD31, L2 RSRVD32, L3 RSRVD33, L4 RSRVD34, L12 DNU3, L13 DNU4, L14 DNU5, M1 RSRVD35, M2 RSRVD36, M3 RSRVD37, M5 RSRVD39, M8 RSRVD42, M9 RSRVD43, M10 RSRVD44, M12 DNU6, M13 DNU7, M14 DNU8, N1 RSRVD45, N2 RSRVD46, N3 RSRVD47, N10 RSRVD54, N12 DNU9, N13 DNU10, N14 DNU11, P1 RSRVD55, P2 RSRVD56, P3 RSRVD57, P10 RSRVD64, P12 DNU12, P13 DNU13, P14 DNU14, R1 RSRVD107, R2 RSRVD65, R3 RSRVD67, R5 RSRVD68, R12 DNU15, R13 DNU16, R14 DNU17, T1 RSRVD69, T2 RSRVD70, T3 RSRVD71, T5 RSRVD72, T12 DNU18, T13 DNU19, T14 DNU20, U1 RSRVD73, U2 RSRVD74, U3 RSRVD75, U6 RSRVD77, U7 RSRVD78, U10 RSRVD79, U12 DNU21, U13 DNU22, U14 DNU23, V1 RSRVD80, V2 RSRVD81, V3 RSRVD82, V12 DNU24, V13 DNU25, V14 DNU26, W1 RSRVD83, W2 RSRVD84, W3 RSRVD85, W7 RSRVD86, W8 RSRVD87, W9 RSRVD88, W10 RSRVD108, W11 RSRVD89, W12 DNU27, W13 DNU28, W14 DNU29, Y1 NC15, Y3 RSRVD90, Y6 RSRVD91, Y7 RSRVD92, Y8 RSRVD93, Y9 RSRVD94, Y10 RSRVD95, Y11 RSRVD96, Y12 RSRVD97, Y13 RSRVD98, Y14 NC16

## SFITVS
designator D?, comment TVS
ESD protect
footprint D06342 (06342)
pins: 1, 2

## SI1021
designator Q?, comment SI2333
footprint SOT-23
pins: 1 G, 2 S, 3 D

## SW SPST_side
designator S?  (value not drawn)
footprint J-SW-3-1_225 (PTS-161)
pins: 1 COMMON, 2 NO, 3 COMMON (power), 6 GND hidden to GND, 7 GND hidden to GND

## Testpoint
designator T?  (value not drawn)
footprint TP0_5 (testpiont)
pins: 1 TP

## TLV320AIC3110
designator U?
footprint U-QFN-32-0_5
pins: 1 IOVSS, 2 IOVDD, 3 DVDD, 4 DOUT, 5 DIN, 6 WCLK, 7 BCLK, 8 MCLK, 9 SDA, 10 SCL, 11 VOL/MICDET, 12 MICBIAS, 13 MIC1LP, 14 MIC1RP, 15 MIC1LM, 16 AVSS, 17 AVDD, 18 DVSS, 19 SPLM, 20 SPLVSS, 21 SPLVDD, 22 SPLP, 23 SPRM, 24 SPRVDD, 25 SPRVSS, 26 SPRP, 27 HPL, 28 HPVDD, 29 HPVSS, 30 HPR, 31 /RESET, 32 GPIO1, 33 VSS

## USB20COM
designator U?
footprint F-CHOKE-4-0805 (COM0805)
pins: 1, 2, 3, 4

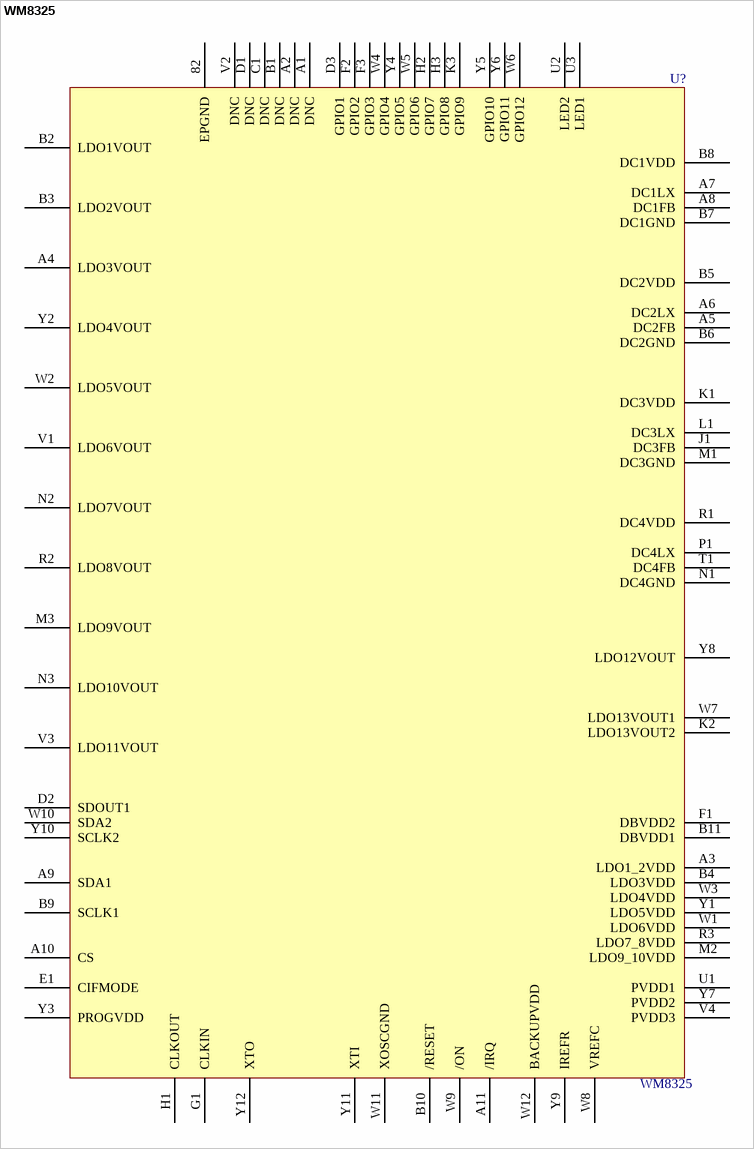
[diagram p7: symbol WM8325]

## WM8325
designator U?
footprint U-WM-81-8325 (Model Description)
pins: 82 EPGND, A1 DNC, A2 DNC, A3 LDO1_2VDD, A4 LDO3VOUT, A5 DC2FB, A6 DC2LX, A7 DC1LX, A8 DC1FB, A9 SDA1, A10 CS, A11 /IRQ, B1 DNC, B2 LDO1VOUT, B3 LDO2VOUT, B4 LDO3VDD, B5 DC2VDD, B6 DC2GND, B7 DC1GND, B8 DC1VDD, B9 SCLK1, B10 /RESET, B11 DBVDD1, C1 DNC, D1 DNC, D2 SDOUT1, D3 GPIO1, E1 CIFMODE, F1 DBVDD2, F2 GPIO2, F3 GPIO3, G1 CLKIN, H1 CLKOUT, H2 GPIO7, H3 GPIO8, J1 DC3FB, K1 DC3VDD, K2 LDO13VOUT2, K3 GPIO9, L1 DC3LX, M1 DC3GND, M2 LDO9_10VDD, M3 LDO9VOUT, N1 DC4GND, N2 LDO7VOUT, N3 LDO10VOUT, P1 DC4LX, R1 DC4VDD, R2 LDO8VOUT, R3 LDO7_8VDD, T1 DC4FB, U1 PVDD1, U2 LED2, U3 LED1, V1 LDO6VOUT, V2 DNC, V3 LDO11VOUT, V4 PVDD3, W1 LDO6VDD, W2 LDO5VOUT, W3 LDO4VDD, W4 GPIO4, W5 GPIO6, W6 GPIO12, W7 LDO13VOUT1, W8 VREFC, W9 /ON, W10 SDA2, W11 XOSCGND, W12 BACKUPVDD, Y1 LDO5VDD, Y2 LDO4VOUT, Y3 PROGVDD, Y4 GPIO5, Y5 GPIO10, Y6 GPIO11, Y7 PVDD2, Y8 LDO12VOUT, Y9 IREFR, Y10 SCLK2, Y11 XTI, Y12 XTO